# EAGLE library part TRANS-CT (library digital-toy)
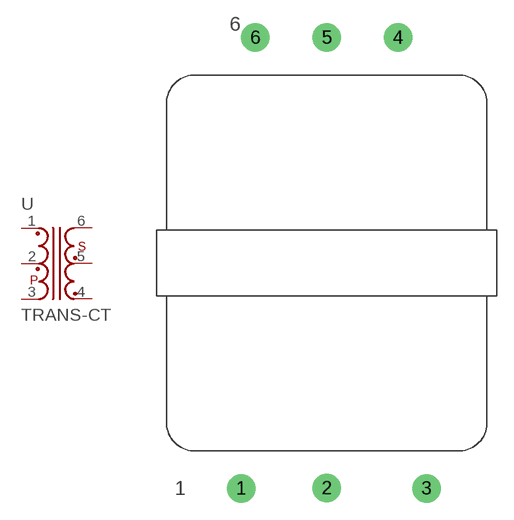
[diagram p14: symbol with the pads of EI33-PT1W-ST1W; footprint EI33-PT1W-ST1W]

Designator prefix -

## TRANS-CTEI33--CT1CT1  [EI33-PT1W-ST1W]
1  1  pas
2  2  pas
3  3  pas
4  4  pas
5  5  pas
6  6  pas

## Footprint EI33-PT1W-ST1W (pad centres in mm)
EI16 core 33.4mmx33.4mm frame: 33.4mmx28.5mm 2x6 pin, 5mm pin-pin PT1W : primary with center tap 1 winding
drill 1.3 pad 2.54 round: 1 -7.62,-20.066; 2 0,-20.038; 3 8.89,-20.066; 4 6.35,20.066; 5 0,20.066; 6 -6.35,20.066